# Altium footprint library CONN_HDR_2.54MM_ST.PcbLib: 159 footprints (part 1 of 13)
Each footprint in its own frame and in the unit in brackets; x right, y up, seen from the top. Pads: shape width x height; smd on the part's side, far side on the other; paste and mask are expansions set on the pad; w line width, h text height; cw(c..) or ccw(c..) is an arc to the next point about the centre after c.
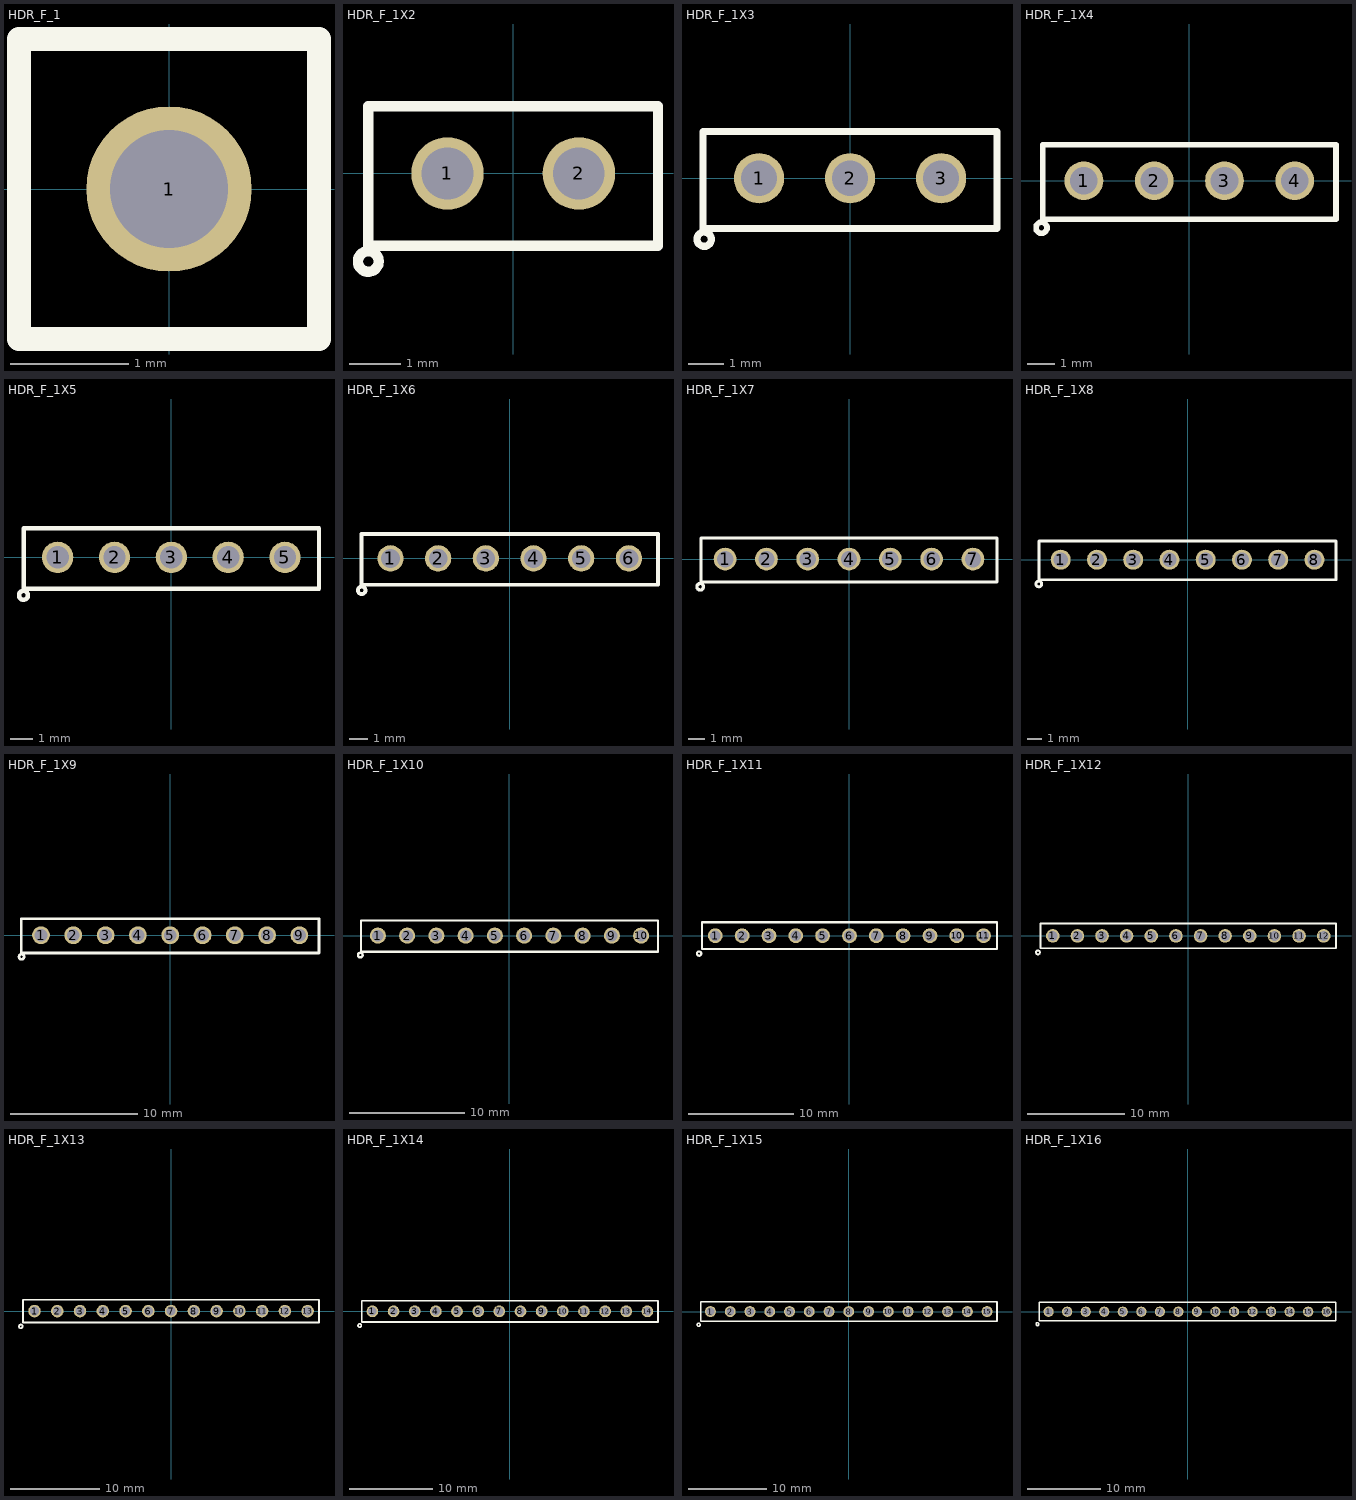
[diagram p0: the footprints below, top view; thin cyan lines are the x and y axes]

## HDR_F_1 [mm] "Connector; Header; 1 Position"
height 8
pads (1):
  round 1.4 / inner round 1.4 / far side oval 1.4x2.2 hole 1: 1(0,0)
TopOverlay:
  lines w0.2: -1.27,-1.27 1.27,-1.27 1.27,1.27 -1.27,1.27 -1.27,-1.27
3D body "PBS-1.stp": height 8.5, standoff -3.15, extent -1.27,-1.27 1.27,1.27

## HDR_F_1X2 [mm] "HEADER FEMALE pitch: 2.54mm"
pads (2):
  round 1.4 / inner round 1.4 / far side oval 1.4x2.2 hole 1 mask+0.1: 1(-1.27,0) 2(1.27,0)
TopOverlay:
  circle w0.2: c-2.8,-1.7 r0.2
  lines w0.2: -2.8,-1.4 2.8,-1.4 2.8,1.3 -2.8,1.3 -2.8,-1.4
3D body "female_header_a-bl254-eg-g02d.stp": height 8.5, standoff -3.2, extent -2.665,-1.3 2.665,1.2

## HDR_F_1X3 [mm] "HEADER FEMALE pitch: 2.54mm"
pads (3):
  round 1.4 / inner round 1.4 / far side oval 1.4x2.2 hole 1 mask+0.1: 1(-2.54,0) 2(0,0) 3(2.54,0)
TopOverlay:
  circle w0.2: c-4.07,-1.7 r0.2
  lines w0.2: -4.1,-1.4 -4.1,1.3 4.1,1.3 4.1,-1.4 -4.1,-1.4
3D body "female_header_a-bl254-eg-g03d.stp": height 8.5, standoff -3.2, extent -3.935,-1.3 3.935,1.2

## HDR_F_1X4 [mm] "HEADER FEMALE pitch: 2.54mm"
pads (4):
  round 1.4 / inner round 1.4 / far side oval 1.4x2.2 hole 1 mask+0.1: 1(-3.81,0) 2(-1.27,0) 3(1.27,0) 4(3.81,0)
TopOverlay:
  circle w0.2: c-5.34,-1.7 r0.2
  lines w0.2: -5.3,-1.4 5.3,-1.4 5.3,1.3 -5.3,1.3 -5.3,-1.4
3D body "female_header_a-bl254-eg-g02d.stp": height 8.5, standoff -3.2, extent -0.125,-1.3 5.205,1.2
3D body "female_header_a-bl254-eg-g02d.stp": height 8.5, standoff -3.2, extent -5.205,-1.3 0.125,1.2

## HDR_F_1X5 [mm] "HEADER FEMALE pitch: 2.54mm"
pads (5):
  round 1.4 / inner round 1.4 / far side oval 1.4x2.2 hole 1 mask+0.1: 1(-5.08,0) 2(-2.54,0) 3(0,0) 4(2.54,0) 5(5.08,0)
TopOverlay:
  circle w0.2: c-6.61,-1.7 r0.2
  lines w0.2: -6.6,-1.4 6.6,-1.4 6.6,1.3 -6.6,1.3 -6.6,-1.4
3D body "female_header_a-bl254-eg-g02d.stp": height 8.5, standoff -3.2, extent 1.145,-1.3 6.475,1.2
3D body "female_header_a-bl254-eg-g03d.stp": height 8.5, standoff -3.2, extent -6.475,-1.3 1.395,1.2

## HDR_F_1X6 [mm] "HEADER FEMALE pitch: 2.54mm"
pads (6):
  round 1.4 / inner round 1.4 / far side oval 1.4x2.2 hole 1 mask+0.1: 1(-6.35,0) 2(-3.81,0) 3(-1.27,0) 4(1.27,0) 5(3.81,0) 6(6.35,0)
TopOverlay:
  circle w0.2: c-7.88,-1.7 r0.2
  lines w0.2: -7.9,-1.4 -7.9,1.3 7.9,1.3 7.9,-1.4 -7.9,-1.4
3D body "female_header_a-bl254-eg-g03d.stp": height 8.5, standoff -3.2, extent -7.745,-1.3 0.125,1.2
3D body "female_header_a-bl254-eg-g03d.stp": height 8.5, standoff -3.2, extent -0.125,-1.3 7.745,1.2

## HDR_F_1X7 [mm] "HEADER FEMALE pitch: 2.54mm"
pads (7):
  round 1.4 / inner round 1.4 / far side oval 1.4x2.2 hole 1 mask+0.1: 1(-7.62,0) 2(-5.08,0) 3(-2.54,0) 4(0,0) 5(2.54,0) 6(5.08,0) 7(7.62,0)
TopOverlay:
  circle w0.2: c-9.15,-1.7 r0.2
  lines w0.2: -9.1,-1.4 9.1,-1.4 9.1,1.3 -9.1,1.3 -9.1,-1.4
3D body "female_header_a-bl254-eg-g02d.stp": height 8.5, standoff -3.2, extent -1.395,-1.3 3.935,1.2
3D body "female_header_a-bl254-eg-g03d.stp": height 8.5, standoff -3.2, extent -9.015,-1.3 -1.145,1.2
3D body "female_header_a-bl254-eg-g02d.stp": height 8.5, standoff -3.2, extent 3.685,-1.3 9.015,1.2

## HDR_F_1X8 [mm] "HEADER FEMALE pitch: 2.54mm"
pads (8):
  round 1.4 / inner round 1.4 / far side oval 1.4x2.2 hole 1 mask+0.1: 1(-8.89,0) 2(-6.35,0) 3(-3.81,0) 4(-1.27,0) 5(1.27,0) 6(3.81,0) 7(6.35,0) 8(8.89,0)
TopOverlay:
  circle w0.2: c-10.42,-1.7 r0.2
  lines w0.2: -10.4,-1.4 -10.4,1.3 10.4,1.3 10.4,-1.4 -10.4,-1.4
3D body "female_header_a-bl254-eg-g02d.stp": height 8.5, standoff -3.2, extent 4.955,-1.3 10.285,1.2
3D body "female_header_a-bl254-eg-g03d.stp": height 8.5, standoff -3.2, extent -10.285,-1.3 -2.415,1.2
3D body "female_header_a-bl254-eg-g03d.stp": height 8.5, standoff -3.2, extent -2.665,-1.3 5.205,1.2

## HDR_F_1X9 [mm] "HEADER FEMALE pitch: 2.54mm"
pads (9):
  round 1.4 / inner round 1.4 / far side oval 1.4x2.2 hole 1 mask+0.1: 1(-10.16,0) 2(-7.62,0) 3(-5.08,0) 4(-2.54,0) 5(0,0) 6(2.54,0) 7(5.08,0) 8(7.62,0) 9(10.16,0)
TopOverlay:
  circle w0.2: c-11.69,-1.7 r0.2
  lines w0.2: -11.7,-1.4 11.7,-1.4 11.7,1.3 -11.7,1.3 -11.7,-1.4
3D body "female_header_a-bl254-eg-g03d.stp": height 8.5, standoff -3.2, extent 3.685,-1.3 11.555,1.2
3D body "female_header_a-bl254-eg-g03d.stp": height 8.5, standoff -3.2, extent -3.935,-1.3 3.935,1.2
3D body "female_header_a-bl254-eg-g03d.stp": height 8.5, standoff -3.2, extent -11.555,-1.3 -3.685,1.2

## HDR_F_1X10 [mm] "HEADER FEMALE pitch: 2.54mm"
pads (10):
  round 1.4 / inner round 1.4 / far side oval 1.4x2.2 hole 1 mask+0.1: 1(-11.43,0) 2(-8.89,0) 3(-6.35,0) 4(-3.81,0) 5(-1.27,0) 6(1.27,0) 7(3.81,0) 8(6.35,0) 9(8.89,0) 10(11.43,0)
TopOverlay:
  circle w0.2: c-12.96,-1.7 r0.2
  lines w0.2: -12.9,-1.4 12.9,-1.4 12.9,1.3 -12.9,1.3 -12.9,-1.4
3D body "female_header_a-bl254-eg-g03d.stp": height 8.5, standoff -3.2, extent -5.205,-1.3 2.665,1.2
3D body "female_header_a-bl254-eg-g03d.stp": height 8.5, standoff -3.2, extent -12.825,-1.3 -4.955,1.2
3D body "female_header_a-bl254-eg-g02d.stp": height 8.5, standoff -3.2, extent 2.415,-1.3 7.745,1.2
3D body "female_header_a-bl254-eg-g02d.stp": height 8.5, standoff -3.2, extent 7.495,-1.3 12.825,1.2

## HDR_F_1X11 [mm] "Connector; Header; 11 Position"
height 8
pads (11):
  round 1.4 / inner round 1.4 / far side oval 1.4x2.2 hole 1: 1(-12.7,0) 2(-10.16,0) 3(-7.62,0) 4(-5.08,0) 5(-2.54,0) 6(0,0) 7(2.54,0) 8(5.08,0) 9(7.62,0) 10(10.16,0) 11(12.7,0)
TopOverlay:
  circle w0.2: c-14.23,-1.7 r0.2
  lines w0.2: -13.97,-1.27 13.97,-1.27 13.97,1.27 -13.97,1.27 -13.97,-1.27
3D body "PBD-2.stp": height 8.5, standoff -3.15, extent 6.35,-1.27 11.43,1.27
3D body "PBD-2.stp": height 8.5, standoff -3.15, extent 1.27,-1.27 6.35,1.27
3D body "PBD-2.stp": height 8.5, standoff -3.15, extent -3.81,-1.27 1.27,1.27
3D body "PBD-2.stp": height 8.5, standoff -3.15, extent -8.89,-1.27 -3.81,1.27
3D body "PBD-2.stp": height 8.5, standoff -3.15, extent -13.97,-1.27 -8.89,1.27
3D body "PBS-1.stp": height 8.5, standoff -3.15, extent 11.43,-1.27 13.97,1.27

## HDR_F_1X12 [mm] "Connector; Header; 12 Position"
height 8
pads (12):
  round 1.4 / inner round 1.4 / far side oval 1.4x2.2 hole 1: 1(-13.97,0) 2(-11.43,0) 3(-8.89,0) 4(-6.35,0) 5(-3.81,0) 6(-1.27,0) 7(1.27,0) 8(3.81,0) 9(6.35,0) 10(8.89,0) 11(11.43,0) 12(13.97,0)
TopOverlay:
  circle w0.2: c-15.5,-1.7 r0.2
  lines w0.2: -15.24,-1.27 15.24,-1.27 15.24,1.27 -15.24,1.27 -15.24,-1.27
3D body "PBD-2.stp": height 8.5, standoff -3.15, extent 10.16,-1.27 15.24,1.27
3D body "PBD-2.stp": height 8.5, standoff -3.15, extent 5.08,-1.27 10.16,1.27
3D body "PBD-2.stp": height 8.5, standoff -3.15, extent 0,-1.27 5.08,1.27
3D body "PBD-2.stp": height 8.5, standoff -3.15, extent -5.08,-1.27 0,1.27
3D body "PBD-2.stp": height 8.5, standoff -3.15, extent -10.16,-1.27 -5.08,1.27
3D body "PBD-2.stp": height 8.5, standoff -3.15, extent -15.24,-1.27 -10.16,1.27

## HDR_F_1X13 [mm] "Connector; Header; 13 Position"
height 8
pads (13):
  round 1.4 / inner round 1.4 / far side oval 1.4x2.2 hole 1: 1(-15.24,0) 2(-12.7,0) 3(-10.16,0) 4(-7.62,0) 5(-5.08,0) 6(-2.54,0) 7(0,0) 8(2.54,0) 9(5.08,0) 10(7.62,0) 11(10.16,0) 12(12.7,0) 13(15.24,0)
TopOverlay:
  circle w0.2: c-16.77,-1.7 r0.2
  lines w0.2: -16.51,-1.27 -16.51,1.27 16.51,1.27 16.51,-1.27 -16.51,-1.27
3D body "PBD-2.stp": height 8.5, standoff -3.15, extent 8.89,-1.27 13.97,1.27
3D body "PBD-2.stp": height 8.5, standoff -3.15, extent 3.81,-1.27 8.89,1.27
3D body "PBD-2.stp": height 8.5, standoff -3.15, extent -1.27,-1.27 3.81,1.27
3D body "PBD-2.stp": height 8.5, standoff -3.15, extent -6.35,-1.27 -1.27,1.27
3D body "PBD-2.stp": height 8.5, standoff -3.15, extent -11.43,-1.27 -6.35,1.27
3D body "PBD-2.stp": height 8.5, standoff -3.15, extent -16.51,-1.27 -11.43,1.27
3D body "PBS-1.stp": height 8.5, standoff -3.15, extent 13.97,-1.27 16.51,1.27

## HDR_F_1X14 [mm] "Connector; Header; 14 Position"
height 8
pads (14):
  round 1.4 / inner round 1.4 / far side oval 1.4x2.2 hole 1: 1(-16.51,0) 2(-13.97,0) 3(-11.43,0) 4(-8.89,0) 5(-6.35,0) 6(-3.81,0) 7(-1.27,0) 8(1.27,0) 9(3.81,0) 10(6.35,0) 11(8.89,0) 12(11.43,0) 13(13.97,0) 14(16.51,0)
TopOverlay:
  circle w0.2: c-18.04,-1.7 r0.2
  lines w0.2: -17.78,-1.27 -17.78,1.27 17.78,1.27 17.78,-1.27 -17.78,-1.27
3D body "PBD-2.stp": height 8.5, standoff -3.15, extent 12.7,-1.27 17.78,1.27
3D body "PBD-2.stp": height 8.5, standoff -3.15, extent 7.62,-1.27 12.7,1.27
3D body "PBD-2.stp": height 8.5, standoff -3.15, extent 2.54,-1.27 7.62,1.27
3D body "PBD-2.stp": height 8.5, standoff -3.15, extent -2.54,-1.27 2.54,1.27
3D body "PBD-2.stp": height 8.5, standoff -3.15, extent -7.62,-1.27 -2.54,1.27
3D body "PBD-2.stp": height 8.5, standoff -3.15, extent -12.7,-1.27 -7.62,1.27
3D body "PBD-2.stp": height 8.5, standoff -3.15, extent -17.78,-1.27 -12.7,1.27

## HDR_F_1X15 [mm] "Connector; Header; 15 Position"
height 8
pads (15):
  round 1.4 / inner round 1.4 / far side oval 1.4x2.2 hole 1: 1(-17.78,0) 2(-15.24,0) 3(-12.7,0) 4(-10.16,0) 5(-7.62,0) 6(-5.08,0) 7(-2.54,0) 8(0,0) 9(2.54,0) 10(5.08,0) 11(7.62,0) 12(10.16,0) 13(12.7,0) 14(15.24,0) 15(17.78,0)
TopOverlay:
  circle w0.2: c-19.31,-1.7 r0.2
  lines w0.2: -19.05,-1.27 -19.05,1.27 19.05,1.27 19.05,-1.27 -19.05,-1.27
3D body "PBD-2.stp": height 8.5, standoff -3.15, extent 11.43,-1.27 16.51,1.27
3D body "PBD-2.stp": height 8.5, standoff -3.15, extent 6.35,-1.27 11.43,1.27
3D body "PBD-2.stp": height 8.5, standoff -3.15, extent 1.27,-1.27 6.35,1.27
3D body "PBD-2.stp": height 8.5, standoff -3.15, extent -3.81,-1.27 1.27,1.27
3D body "PBD-2.stp": height 8.5, standoff -3.15, extent -8.89,-1.27 -3.81,1.27
3D body "PBD-2.stp": height 8.5, standoff -3.15, extent -13.97,-1.27 -8.89,1.27
3D body "PBD-2.stp": height 8.5, standoff -3.15, extent -19.05,-1.27 -13.97,1.27
3D body "PBS-1.stp": height 8.5, standoff -3.15, extent 16.51,-1.27 19.05,1.27

## HDR_F_1X16 [mm] "Connector; Header; 16 Position"
height 8
pads (16):
  round 1.4 / inner round 1.4 / far side oval 1.4x2.2 hole 1: 1(-19.05,0) 2(-16.51,0) 3(-13.97,0) 4(-11.43,0) 5(-8.89,0) 6(-6.35,0) 7(-3.81,0) 8(-1.27,0) 9(1.27,0) 10(3.81,0) 11(6.35,0) 12(8.89,0) 13(11.43,0) 14(13.97,0) 15(16.51,0) 16(19.05,0)
TopOverlay:
  circle w0.2: c-20.58,-1.7 r0.2
  lines w0.2: -20.32,-1.27 -20.32,1.27 20.32,1.27 20.32,-1.27 -20.32,-1.27
3D body "PBD-2.stp": height 8.5, standoff -3.15, extent -20.32,-1.27 -15.24,1.27
3D body "PBD-2.stp": height 8.5, standoff -3.15, extent -15.24,-1.27 -10.16,1.27
3D body "PBD-2.stp": height 8.5, standoff -3.15, extent -10.16,-1.27 -5.08,1.27
3D body "PBD-2.stp": height 8.5, standoff -3.15, extent -5.08,-1.27 0,1.27
3D body "PBD-2.stp": height 8.5, standoff -3.15, extent 0,-1.27 5.08,1.27
3D body "PBD-2.stp": height 8.5, standoff -3.15, extent 5.08,-1.27 10.16,1.27
3D body "PBD-2.stp": height 8.5, standoff -3.15, extent 10.16,-1.27 15.24,1.27
3D body "PBD-2.stp": height 8.5, standoff -3.15, extent 15.24,-1.27 20.32,1.27